# Altium schematic symbol library IRF60SC241.SchLib: 1 symbol
Pins are listed as number, name and electrical type; pins without a type are passive.

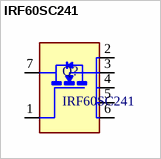
[diagram p0: symbol IRF60SC241]

## IRF60SC241
designator Q?
MOSFET TRENCH 40<-<100V
pins: 1 G, 2 D, 3 D, 4 D, 5 D, 6 D, 7 S